# Altium schematic symbol library SW-PB-B3F.Schlib: 1 symbol
Pins are listed as number, name and electrical type; pins without a type are passive.

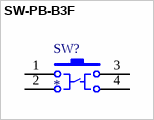
[diagram p0: symbol SW-PB-B3F]

## SW-PB-B3F
designator SW?
pins: 1, 2, 3, 4